# Altium footprint library Photocoupler.PcbLib: 1 footprints
Each footprint in its own frame and in the unit in brackets; x right, y up, seen from the top. Pads: shape width x height; smd on the part's side, far side on the other; paste and mask are expansions set on the pad; w line width, h text height; cw(c..) or ccw(c..) is an arc to the next point about the centre after c.
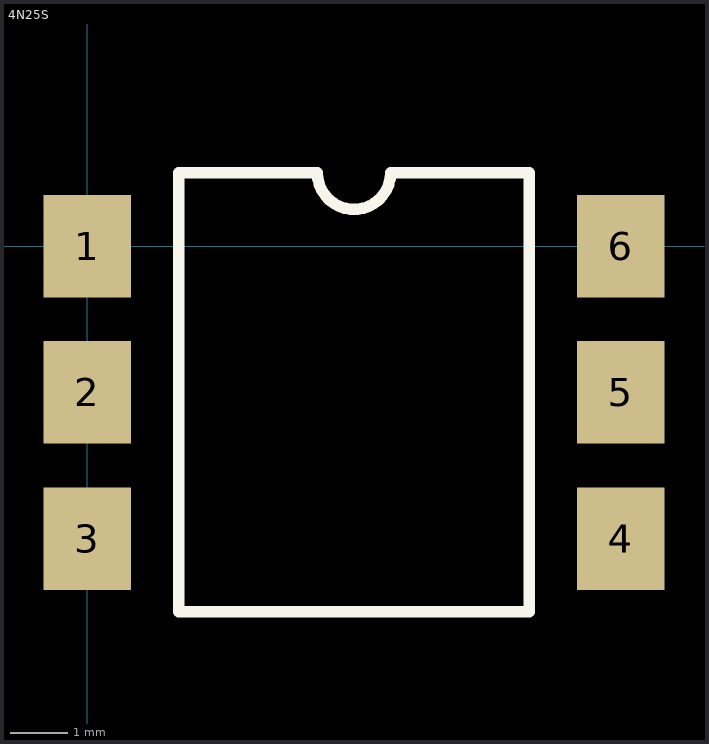
[diagram p0: the footprint, top view; thin cyan lines are the x and y axes]

## 4N25S [mm] "S"
pads (6):
  rect 1.52x1.78 smd: 1(0,0) 2(0,-2.54) 3(0,-5.08) 4(9.27,-5.08) 5(9.27,-2.54) 6(9.27,0)
Top Overlay:
  lines w0.2: 1.595,-6.35 7.675,-6.35 7.675,1.27 5.27,1.27 cw(c4.635,1.27) 4,1.27 1.595,1.27 1.595,-6.35
3D body: height 2.5, standoff 0, extent 1.594,-6.351 7.676,1.271
3D body: height 1, standoff 0, extent -0.635,-0.635 1.651,0.635
3D body: height 1, standoff 0, extent -0.635,-3.175 1.651,-1.905
3D body: height 1, standoff 0, extent -0.635,-5.715 1.651,-4.445
3D body: height 1, standoff 0, extent 7.619,-5.715 9.905,-4.445
3D body: height 1, standoff 0, extent 7.619,-3.175 9.905,-1.905
3D body: height 1, standoff 0, extent 7.619,-0.635 9.905,0.635